# Altium schematic symbol library CONN_10X_HEADER_2.54.SchLib: 1 symbol
Pins are listed as number, name and electrical type; pins without a type are passive.

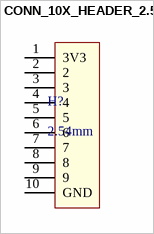
[diagram p0: symbol CONN_10X_HEADER_2.54]

## CONN_10X_HEADER_2.54
designator H?, comment 2.54mm
10 Pin 2.54mm Header Row; Supplier 1: Mouser; Supplier Part Number 1: 649-1012937891001BLF
footprint CON_10X_HEADER_2.54 (10 Pin Header)
pins: 1 3V3, 2, 3, 4, 5, 6, 7, 8, 9, 10 GND